# Altium footprint library AS32-TTL-100.PcbLib: 1 footprints
Each footprint in its own frame and in the unit in brackets; x right, y up, seen from the top. Pads: shape width x height; smd on the part's side, far side on the other; paste and mask are expansions set on the pad; w line width, h text height; cw(c..) or ccw(c..) is an arc to the next point about the centre after c.
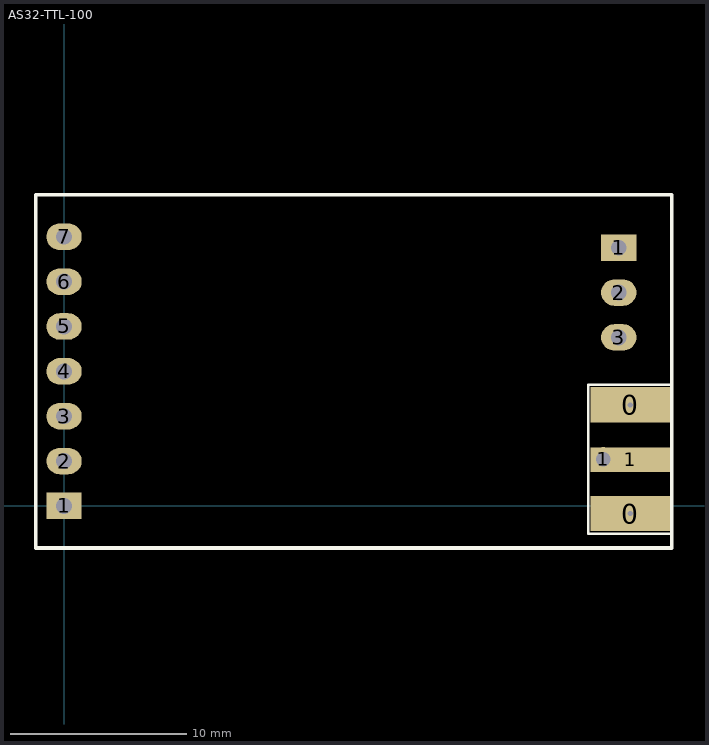
[diagram p0: the footprint, top view; thin cyan lines are the x and y axes]

## AS32-TTL-100 [mm]
pads (14):
  rect 4.5x2 hole 0.3 mask+0.05: 0(32.05,-0.43) 0(32.05,5.72)
  rect 2x1.5 hole 0.9 mask+0.05: 1(0,0) 1(31.4,14.62)
  round 1.4 hole 0.8 mask+0.05: 1(30.525,2.645)
  rect 4.5x1.4 smd mask+0.05: 1(32.05,2.62)
  oval 2x1.5 hole 0.9 mask+0.05: 2(0,2.54) 2(31.4,12.08) 3(0,5.08) 3(31.4,9.54) 4(0,7.62) 5(0,10.16) 6(0,12.7) 7(0,15.24)
Top Overlay:
  lines w0.15: 29.675,-1.58 34.425,-1.58 34.425,6.87 29.675,6.87 29.675,-1.58
  lines w0.2: -1.6,-2.38 -1.6,17.62 34.4,17.62 34.4,-2.38 -1.6,-2.38